# Altium schematic symbol library LM3485.SchLib: 1 symbol
Pins are listed as number, name and electrical type; pins without a type are passive.

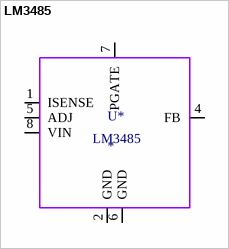
[diagram p0: symbol LM3485]

## LM3485
designator U*
pins: 1 ISENSE, 2 GND, 4 FB, 5 ADJ, 6 GND, 7 PGATE, 8 VIN